# EAGLE library part ATMEGA32U4 (library atmega32u4)
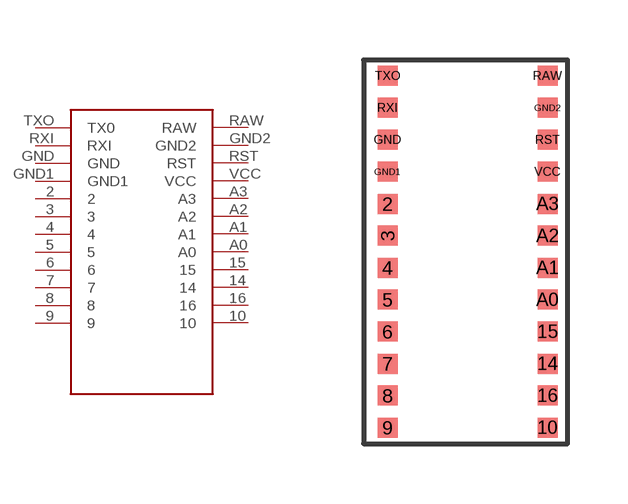
[diagram p0: symbol with the pads of ATMEGA32U4; footprint ATMEGA32U4]

Designator prefix -

## ATMEGA32U4  [ATMEGA32U4]
2  2
3  3
4  4
5  5
6  6
7  7
8  8
9  9
10  10
14  14
15  15
16  16
A0  A0
A1  A1
A2  A2
A3  A3
GND  GND
GND1  GND1
GND2  GND2
RAW  RAW
RST  RST
RXI  RXI
TXO  TX0
VCC  VCC

## Footprint ATMEGA32U4 (pad centres in mm)
smd 0.5 x 0.5: 2 0,5.6; 3 0,4.8; 4 0,4; 5 0,3.2; 6 0,2.4; 7 0,1.6; 8 0,0.8; 9 0,0; 10 4,0; 14 4,1.6; 15 4,2.4; 16 4,0.8; A0 4,3.2; A1 4,4; A2 4,4.8; A3 4,5.6; GND 0,7.2; GND1 0,6.4; GND2 4,8; RAW 4,8.8; RST 4,7.2; RXI 0,8; TXO 0,8.8; VCC 4,6.4